# Altium footprint library Holder.PcbLib: 2 footprints
Each footprint in its own frame and in the unit in brackets; x right, y up, seen from the top. Pads: shape width x height; smd on the part's side, far side on the other; paste and mask are expansions set on the pad; w line width, h text height; cw(c..) or ccw(c..) is an arc to the next point about the centre after c.
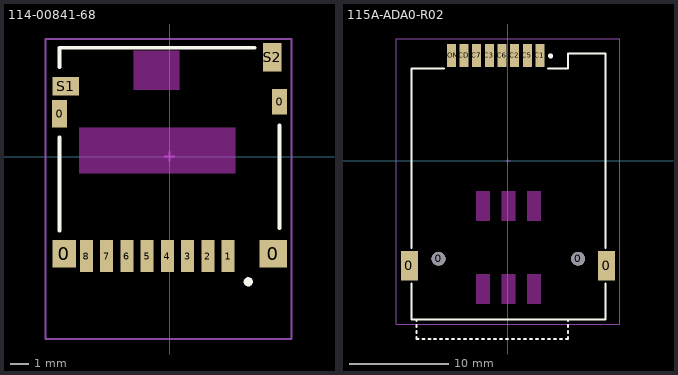
[diagram p0: the footprints below, top view; thin cyan lines are the x and y axes]

## 114-00841-68 [mm]
height 1.55
pads (14):
  rect 0.8x1.5 smd: 0(-5.975,2.325)
  rect 1.3x1.5 smd: 0(-5.721,-5.275)
  rect 1.5x1.5 smd: 0(5.629,-5.275)
  rect 0.8x1.4 smd: 0(5.975,2.975)
  rect 0.7x1.75 smd: 1(3.179,-5.4) 2(2.079,-5.4) 3(0.979,-5.4) 4(-0.121,-5.4) 5(-1.221,-5.4) 6(-2.321,-5.4) 7(-3.421,-5.4) 8(-4.521,-5.4)
  rect 1.45x1 smd: S1(-5.645,3.825)
  rect 1x1.55 smd: S2(5.575,5.4)
Top Layer keep-out:
  region: 3.579,1.585 -4.921,1.585 -4.921,-0.904 3.579,-0.904
  region: 0.529,5.776 -1.971,5.776 -1.971,3.617 0.529,3.617
Top Overlay:
  circle w0.25: c4.275,-6.8 r0.125
  lines w0.2: -5.975,-4.025 -5.975,1.055 ; -5.975,4.865 -5.975,5.906 4.613,5.906 ; 5.975,-3.883 5.975,1.705
Mechanical 15:
  lines w0.1: -0.25,0 0.25,0 ; 0,-0.25 0,0.25 ; -6.737,-9.906 6.629,-9.906 6.629,6.389 -6.737,6.389 -6.737,-9.906
3D body "User Library-Micro_SD (1).STEP": height 1.65, standoff 0.67, extent -5.5,-9.9 5.5,5.1
3D body "Micro SD Holder 114-00841-68.STEP": height 1.6, standoff 0, extent -6,-5.85 6,5.75

## 115A-ADA0-R02 [mm]
height 1.8
pads (12):
  rect 1.7x3 smd: 0(-9.9,-10.55) 0(9.9,-10.55)
  round 1.4 hole 1.4 unplated: 0(-6.96,-9.85) 0(7.04,-9.85)
  rect 0.9x2.3 smd: C1(3.21,10.55) C2(0.67,10.55) C3(-1.87,10.55) C5(1.94,10.55) C6(-0.6,10.55) C7(-3.14,10.55) CD(-4.41,10.55) COM(-5.68,10.55)
Top Layer keep-out:
  region: 3.29,-14.37 3.29,-11.37 1.89,-11.37 1.89,-14.37
  region: 0.75,-14.37 0.75,-11.37 -0.65,-11.37 -0.65,-14.37
  region: -1.79,-14.37 -1.79,-11.37 -3.19,-11.37 -3.19,-14.37
  region: 3.29,-6.07 3.29,-3.07 1.89,-3.07 1.89,-6.07
  region: 0.75,-6.07 0.75,-3.07 -0.65,-3.07 -0.65,-6.07
  region: -1.79,-6.07 -1.79,-3.07 -3.19,-3.07 -3.19,-6.07
Top Overlay:
  circle w0.25: c4.275,10.5 r0.125
  lines w0.2: -9.7,-12.35 -9.7,-15.95 9.8,-15.95 9.8,-12.35 ; -9.7,-8.75 -9.7,9.25 -6.4,9.25 ; -9.2,-17.7 -9.2,-17.9 -9,-17.9 ; -9.2,-17.3 -9.2,-17.1 ; -9.2,-16.7 -9.2,-16.5 ; -9.2,-16.1 -9.2,-15.95 ; -8.6,-17.9 -8.4,-17.9 ; -8,-17.9 -7.8,-17.9 ; -7.4,-17.9 -7.2,-17.9 ; -6.8,-17.9 -6.6,-17.9 ; -6.2,-17.9 -6,-17.9 ; -5.6,-17.9 -5.4,-17.9 ; -5,-17.9 -4.8,-17.9 ; -4.4,-17.9 -4.2,-17.9 ; -3.8,-17.9 -3.6,-17.9 ; -3.2,-17.9 -3,-17.9 ; -2.6,-17.9 -2.4,-17.9 ; -2,-17.9 -1.8,-17.9 ; -1.4,-17.9 -1.2,-17.9 ; -0.8,-17.9 -0.6,-17.9 ; -0.2,-17.9 0,-17.9 ; 0.4,-17.9 0.6,-17.9 ; 1,-17.9 1.2,-17.9 ; 1.6,-17.9 1.8,-17.9 ; 2.2,-17.9 2.4,-17.9 ; 2.8,-17.9 3,-17.9 ; 3.4,-17.9 3.6,-17.9 ; 4,-17.9 4.2,-17.9 ; 4,9.25 6,9.25 6,10.75 9.8,10.75 9.8,-8.75 ; 4.6,-17.9 4.8,-17.9 ; 5.2,-17.9 5.4,-17.9 ; 5.8,-17.9 6,-17.9 6,-17.7 ; 6,-17.3 6,-17.1 ; 6,-16.7 6,-16.5 ; 6,-16.1 6,-15.95
Mechanical 15:
  lines w0.1: -0.25,0 0.25,0 ; 0,-0.25 0,0.25 ; -11.2,-16.4 -11.2,12.2 11.2,12.2 11.2,-16.4 -11.2,-16.4
3D body "115A-ADA0-R02.STEP": height 1.8, standoff 0, extent -10.45,-15.85 10.5,11.15
3D body "simcad.STEP": height 1.4, standoff 0.65, extent -9.1,-17.8 5.9,7.2